# Altium footprint library L_0603_1608.pcblib: 1 footprints
Each footprint in its own frame and in the unit in brackets; x right, y up, seen from the top. Pads: shape width x height; smd on the part's side, far side on the other; paste and mask are expansions set on the pad; w line width, h text height; cw(c..) or ccw(c..) is an arc to the next point about the centre after c.
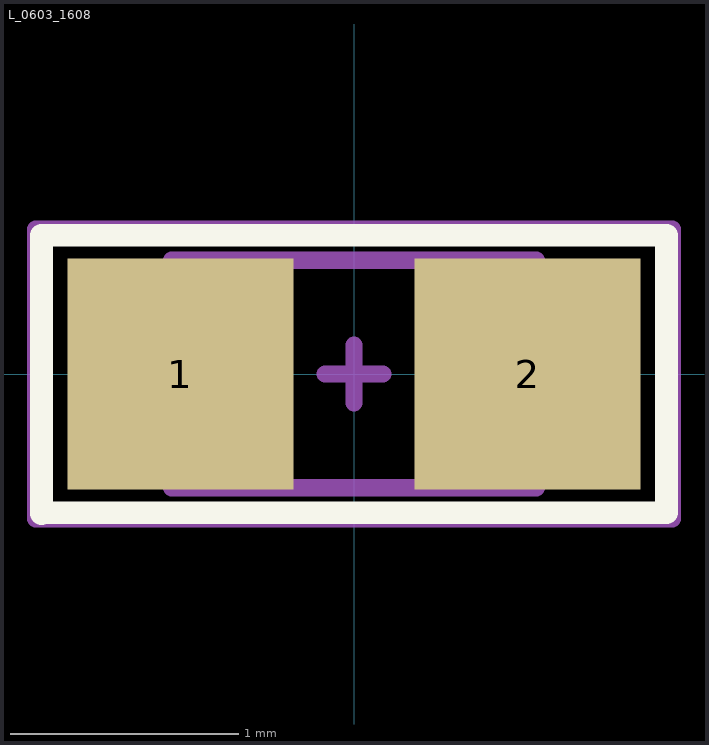
[diagram p0: the footprint, top view; thin cyan lines are the x and y axes]

## L_0603_1608 [mil]
pads (2):
  rect 39x40 smd: 1(-30,0) 2(30,0)
Top Overlay:
  lines w3.94: -54,-24.12 -54,24 54,24 54,-24 -54,-24
Mechanical 13:
  lines w3: -31.49,-19.68 -31.49,19.69 31.5,19.69 31.5,-19.68 -31.49,-19.68
Mechanical 15:
  lines w3: -5,0 5,0 ; 0,-5 0,5 ; -55,-25 -55,25 55,25 55,-25 -55,-25
Mechanical 17:
  text "'.Designator'" at -40,-15 h10
Mechanical 19:
  text "'.Comment'" at -40,-15 h10
3D body "IND0603.step": height 30.75, standoff -0.75, extent -31.49,-19.68 31.5,19.69